# Altium footprint library BBGA-780.PcbLib: 1 footprints
Each footprint in its own frame and in the unit in brackets; x right, y up, seen from the top. Pads: shape width x height; smd on the part's side, far side on the other; paste and mask are expansions set on the pad; w line width, h text height; cw(c..) or ccw(c..) is an arc to the next point about the centre after c.
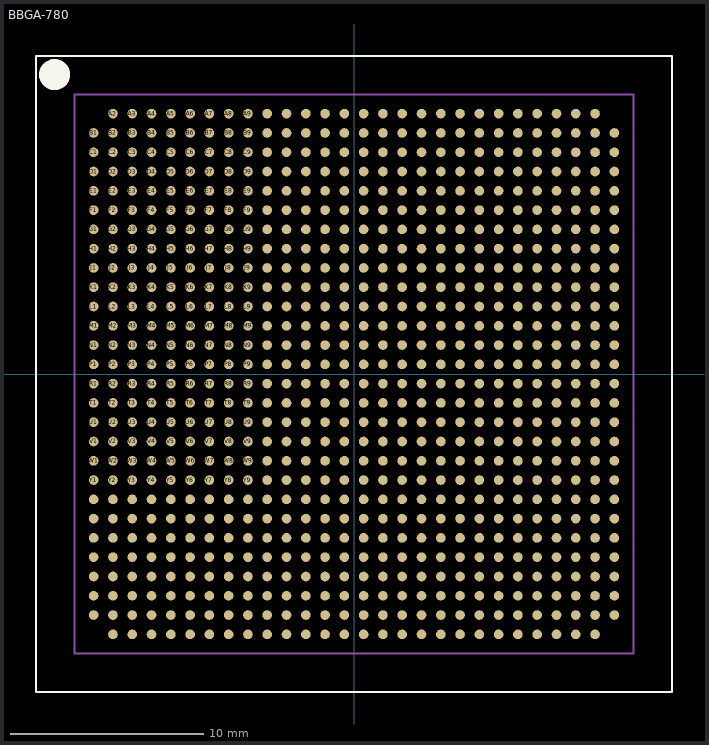
[diagram p0: the footprint, top view; thin cyan lines are the x and y axes]

## BBGA-780 [mil]
height 35.43
pads (780):
  rrect100% 19.69x19.69 smd: A2(-492.13,531.5) A3(-452.76,531.5) A4(-413.39,531.5) A5(-374.02,531.5) A6(-334.65,531.5) A7(-295.28,531.5) A8(-255.91,531.5) A9(-216.54,531.5) A10(-177.17,531.5) A11(-137.8,531.5) A12(-98.43,531.5) A13(-59.06,531.5) A14(-19.69,531.5) A15(19.69,531.5) A16(59.06,531.5) A17(98.43,531.5) A18(137.8,531.5) A19(177.17,531.5) A20(216.54,531.5) A21(255.91,531.5) A22(295.28,531.5) A23(334.65,531.5) A24(374.02,531.5) A25(413.39,531.5) A26(452.76,531.5) A27(492.13,531.5) AA1(-531.5,-255.91) AA2(-492.13,-255.91) AA3(-452.76,-255.91) AA4(-413.39,-255.91) AA5(-374.02,-255.91) AA6(-334.65,-255.91) AA7(-295.28,-255.91) AA8(-255.91,-255.91) AA9(-216.54,-255.91) AA10(-177.17,-255.91) AA11(-137.8,-255.91) AA12(-98.43,-255.91) AA13(-59.06,-255.91) AA14(-19.69,-255.91) AA15(19.69,-255.91) AA16(59.06,-255.91) AA17(98.43,-255.91) AA18(137.8,-255.91) AA19(177.17,-255.91) AA20(216.54,-255.91) AA21(255.91,-255.91) AA22(295.28,-255.91) AA23(334.65,-255.91) AA24(374.02,-255.91) AA25(413.39,-255.91) AA26(452.76,-255.91) AA27(492.13,-255.91) AA28(531.5,-255.91) AB1(-531.5,-295.28) AB2(-492.13,-295.28) AB3(-452.76,-295.28) AB4(-413.39,-295.28) AB5(-374.02,-295.28) AB6(-334.65,-295.28) AB7(-295.28,-295.28) AB8(-255.91,-295.28) AB9(-216.54,-295.28) AB10(-177.17,-295.28) AB11(-137.8,-295.28) AB12(-98.43,-295.28) AB13(-59.06,-295.28) AB14(-19.69,-295.28) AB15(19.69,-295.28) AB16(59.06,-295.28) AB17(98.43,-295.28) AB18(137.8,-295.28) AB19(177.17,-295.28) AB20(216.54,-295.28) AB21(255.91,-295.28) AB22(295.28,-295.28) AB23(334.65,-295.28) AB24(374.02,-295.28) AB25(413.39,-295.28) AB26(452.76,-295.28) AB27(492.13,-295.28) AB28(531.5,-295.28) AC1(-531.5,-334.65) AC2(-492.13,-334.65) AC3(-452.76,-334.65) AC4(-413.39,-334.65) AC5(-374.02,-334.65) AC6(-334.65,-334.65) AC7(-295.28,-334.65) AC8(-255.91,-334.65) AC9(-216.54,-334.65) AC10(-177.17,-334.65) AC11(-137.8,-334.65) AC12(-98.43,-334.65) AC13(-59.06,-334.65) AC14(-19.69,-334.65) AC15(19.69,-334.65) AC16(59.06,-334.65) AC17(98.43,-334.65) AC18(137.8,-334.65) AC19(177.17,-334.65) AC20(216.54,-334.65) AC21(255.91,-334.65) AC22(295.28,-334.65) AC23(334.65,-334.65) AC24(374.02,-334.65) AC25(413.39,-334.65) AC26(452.76,-334.65) AC27(492.13,-334.65) AC28(531.5,-334.65) AD1(-531.5,-374.02) AD2(-492.13,-374.02) AD3(-452.76,-374.02) AD4(-413.39,-374.02) AD5(-374.02,-374.02) AD6(-334.65,-374.02) AD7(-295.28,-374.02) AD8(-255.91,-374.02) AD9(-216.54,-374.02) AD10(-177.17,-374.02) AD11(-137.8,-374.02) AD12(-98.43,-374.02) AD13(-59.06,-374.02) AD14(-19.69,-374.02) AD15(19.69,-374.02) AD16(59.06,-374.02) AD17(98.43,-374.02) AD18(137.8,-374.02) AD19(177.17,-374.02) AD20(216.54,-374.02) AD21(255.91,-374.02) AD22(295.28,-374.02) AD23(334.65,-374.02) AD24(374.02,-374.02) AD25(413.39,-374.02) AD26(452.76,-374.02) AD27(492.13,-374.02) AD28(531.5,-374.02) AE1(-531.5,-413.39) AE2(-492.13,-413.39) AE3(-452.76,-413.39) AE4(-413.39,-413.39) AE5(-374.02,-413.39) AE6(-334.65,-413.39) AE7(-295.28,-413.39) AE8(-255.91,-413.39) AE9(-216.54,-413.39) AE10(-177.17,-413.39) AE11(-137.8,-413.39) AE12(-98.43,-413.39) AE13(-59.06,-413.39) AE14(-19.69,-413.39) AE15(19.69,-413.39) AE16(59.06,-413.39) AE17(98.43,-413.39) AE18(137.8,-413.39) AE19(177.17,-413.39) AE20(216.54,-413.39) AE21(255.91,-413.39) AE22(295.28,-413.39) AE23(334.65,-413.39) AE24(374.02,-413.39) AE25(413.39,-413.39) AE26(452.76,-413.39) AE27(492.13,-413.39) AE28(531.5,-413.39) AF1(-531.5,-452.76) AF2(-492.13,-452.76) AF3(-452.76,-452.76) AF4(-413.39,-452.76) AF5(-374.02,-452.76) AF6(-334.65,-452.76) AF7(-295.28,-452.76) AF8(-255.91,-452.76) AF9(-216.54,-452.76) AF10(-177.17,-452.76) AF11(-137.8,-452.76) AF12(-98.43,-452.76) AF13(-59.06,-452.76) AF14(-19.69,-452.76) AF15(19.69,-452.76) AF16(59.06,-452.76) AF17(98.43,-452.76) AF18(137.8,-452.76) AF19(177.17,-452.76) AF20(216.54,-452.76) AF21(255.91,-452.76) AF22(295.28,-452.76) AF23(334.65,-452.76) AF24(374.02,-452.76) AF25(413.39,-452.76) AF26(452.76,-452.76) AF27(492.13,-452.76) AF28(531.5,-452.76) AG1(-531.5,-492.13) AG2(-492.13,-492.13) AG3(-452.76,-492.13) AG4(-413.39,-492.13) AG5(-374.02,-492.13) AG6(-334.65,-492.13) AG7(-295.28,-492.13) AG8(-255.91,-492.13) AG9(-216.54,-492.13) AG10(-177.17,-492.13) AG11(-137.8,-492.13) AG12(-98.43,-492.13) AG13(-59.06,-492.13) AG14(-19.69,-492.13) AG15(19.69,-492.13) AG16(59.06,-492.13) AG17(98.43,-492.13) AG18(137.8,-492.13) AG19(177.17,-492.13) AG20(216.54,-492.13) AG21(255.91,-492.13) AG22(295.28,-492.13) AG23(334.65,-492.13) AG24(374.02,-492.13) AG25(413.39,-492.13) AG26(452.76,-492.13) AG27(492.13,-492.13) AG28(531.5,-492.13) AH2(-492.13,-531.5) AH3(-452.76,-531.5) AH4(-413.39,-531.5) AH5(-374.02,-531.5) AH6(-334.65,-531.5) AH7(-295.28,-531.5) AH8(-255.91,-531.5) AH9(-216.54,-531.5) AH10(-177.17,-531.5) AH11(-137.8,-531.5) AH12(-98.43,-531.5) AH13(-59.06,-531.5) AH14(-19.69,-531.5) AH15(19.69,-531.5) AH16(59.06,-531.5) AH17(98.43,-531.5) AH18(137.8,-531.5) AH19(177.17,-531.5) AH20(216.54,-531.5) AH21(255.91,-531.5) AH22(295.28,-531.5) AH23(334.65,-531.5) AH24(374.02,-531.5) AH25(413.39,-531.5) AH26(452.76,-531.5) AH27(492.13,-531.5) B1(-531.5,492.13) B2(-492.13,492.13) B3(-452.76,492.13) B4(-413.39,492.13) B5(-374.02,492.13) B6(-334.65,492.13) B7(-295.28,492.13) B8(-255.91,492.13) B9(-216.54,492.13) B10(-177.17,492.13) B11(-137.8,492.13) B12(-98.43,492.13) B13(-59.06,492.13) B14(-19.69,492.13) B15(19.69,492.13) B16(59.06,492.13) B17(98.43,492.13) B18(137.8,492.13) B19(177.17,492.13) B20(216.54,492.13) B21(255.91,492.13) B22(295.28,492.13) B23(334.65,492.13) B24(374.02,492.13) B25(413.39,492.13) B26(452.76,492.13) B27(492.13,492.13) B28(531.5,492.13) C1(-531.5,452.76) C2(-492.13,452.76) C3(-452.76,452.76) C4(-413.39,452.76) C5(-374.02,452.76) C6(-334.65,452.76) C7(-295.28,452.76) C8(-255.91,452.76) C9(-216.54,452.76) C10(-177.17,452.76) C11(-137.8,452.76) C12(-98.43,452.76) C13(-59.06,452.76) C14(-19.69,452.76) C15(19.69,452.76) C16(59.06,452.76) C17(98.43,452.76) C18(137.8,452.76) C19(177.17,452.76) C20(216.54,452.76) C21(255.91,452.76) C22(295.28,452.76) C23(334.65,452.76) C24(374.02,452.76) C25(413.39,452.76) C26(452.76,452.76) C27(492.13,452.76) C28(531.5,452.76) D1(-531.5,413.39) D2(-492.13,413.39) D3(-452.76,413.39) D4(-413.39,413.39) D5(-374.02,413.39) D6(-334.65,413.39) D7(-295.28,413.39) D8(-255.91,413.39) D9(-216.54,413.39) D10(-177.17,413.39) D11(-137.8,413.39) D12(-98.43,413.39) D13(-59.06,413.39) D14(-19.69,413.39) D15(19.69,413.39) D16(59.06,413.39) D17(98.43,413.39) D18(137.8,413.39) D19(177.17,413.39) D20(216.54,413.39) D21(255.91,413.39) D22(295.28,413.39) D23(334.65,413.39) D24(374.02,413.39) D25(413.39,413.39) D26(452.76,413.39) D27(492.13,413.39) D28(531.5,413.39) E1(-531.5,374.02) E2(-492.13,374.02) E3(-452.76,374.02) E4(-413.39,374.02) E5(-374.02,374.02) E6(-334.65,374.02) E7(-295.28,374.02) E8(-255.91,374.02) E9(-216.54,374.02) E10(-177.17,374.02) E11(-137.8,374.02) E12(-98.43,374.02) E13(-59.06,374.02) E14(-19.69,374.02) E15(19.69,374.02) E16(59.06,374.02) E17(98.43,374.02) E18(137.8,374.02) E19(177.17,374.02) E20(216.54,374.02) E21(255.91,374.02) E22(295.28,374.02) E23(334.65,374.02) E24(374.02,374.02) E25(413.39,374.02) E26(452.76,374.02) E27(492.13,374.02) E28(531.5,374.02) F1(-531.5,334.65) F2(-492.13,334.65) F3(-452.76,334.65) F4(-413.39,334.65) F5(-374.02,334.65) F6(-334.65,334.65) F7(-295.28,334.65) F8(-255.91,334.65) F9(-216.54,334.65) F10(-177.17,334.65) F11(-137.8,334.65) F12(-98.43,334.65) F13(-59.06,334.65) F14(-19.69,334.65) F15(19.69,334.65) F16(59.06,334.65) F17(98.43,334.65) F18(137.8,334.65) F19(177.17,334.65) F20(216.54,334.65) F21(255.91,334.65) F22(295.28,334.65) F23(334.65,334.65) F24(374.02,334.65) F25(413.39,334.65) F26(452.76,334.65) F27(492.13,334.65) F28(531.5,334.65) G1(-531.5,295.28) G2(-492.13,295.28) G3(-452.76,295.28) G4(-413.39,295.28) G5(-374.02,295.28) G6(-334.65,295.28) G7(-295.28,295.28) G8(-255.91,295.28) G9(-216.54,295.28) G10(-177.17,295.28) G11(-137.8,295.28) G12(-98.43,295.28) G13(-59.06,295.28) G14(-19.69,295.28) G15(19.69,295.28) G16(59.06,295.28) G17(98.43,295.28) G18(137.8,295.28) G19(177.17,295.28) G20(216.54,295.28) G21(255.91,295.28) G22(295.28,295.28) G23(334.65,295.28) G24(374.02,295.28) G25(413.39,295.28) G26(452.76,295.28) G27(492.13,295.28) G28(531.5,295.28) H1(-531.5,255.91) H2(-492.13,255.91) H3(-452.76,255.91) H4(-413.39,255.91) H5(-374.02,255.91) H6(-334.65,255.91) H7(-295.28,255.91) H8(-255.91,255.91) H9(-216.54,255.91) H10(-177.17,255.91) H11(-137.8,255.91) H12(-98.43,255.91) H13(-59.06,255.91) H14(-19.69,255.91) H15(19.69,255.91) H16(59.06,255.91) H17(98.43,255.91) H18(137.8,255.91) H19(177.17,255.91) H20(216.54,255.91) H21(255.91,255.91) H22(295.28,255.91) H23(334.65,255.91) H24(374.02,255.91) H25(413.39,255.91) H26(452.76,255.91) H27(492.13,255.91) H28(531.5,255.91) J1(-531.5,216.54) J2(-492.13,216.54) J3(-452.76,216.54) J4(-413.39,216.54) J5(-374.02,216.54) J6(-334.65,216.54) J7(-295.28,216.54) J8(-255.91,216.54) J9(-216.54,216.54) J10(-177.17,216.54) J11(-137.8,216.54) J12(-98.43,216.54) J13(-59.06,216.54) J14(-19.69,216.54) J15(19.69,216.54) J16(59.06,216.54) J17(98.43,216.54) J18(137.8,216.54) J19(177.17,216.54) J20(216.54,216.54) J21(255.91,216.54) J22(295.28,216.54) J23(334.65,216.54) J24(374.02,216.54) J25(413.39,216.54) J26(452.76,216.54) J27(492.13,216.54) J28(531.5,216.54) K1(-531.5,177.17) K2(-492.13,177.17) K3(-452.76,177.17) K4(-413.39,177.17) K5(-374.02,177.17) K6(-334.65,177.17) K7(-295.28,177.17) K8(-255.91,177.17) K9(-216.54,177.17) K10(-177.17,177.17) K11(-137.8,177.17) K12(-98.43,177.17) K13(-59.06,177.17) K14(-19.69,177.17) K15(19.69,177.17) K16(59.06,177.17) K17(98.43,177.17) K18(137.8,177.17) K19(177.17,177.17) K20(216.54,177.17) K21(255.91,177.17) K22(295.28,177.17) K23(334.65,177.17) K24(374.02,177.17) K25(413.39,177.17) K26(452.76,177.17) K27(492.13,177.17) K28(531.5,177.17) L1(-531.5,137.8) L2(-492.13,137.8) L3(-452.76,137.8) L4(-413.39,137.8) L5(-374.02,137.8) L6(-334.65,137.8) L7(-295.28,137.8) L8(-255.91,137.8) L9(-216.54,137.8) L10(-177.17,137.8) L11(-137.8,137.8) L12(-98.43,137.8) L13(-59.06,137.8) L14(-19.69,137.8) L15(19.69,137.8) L16(59.06,137.8) L17(98.43,137.8) L18(137.8,137.8) L19(177.17,137.8) L20(216.54,137.8) L21(255.91,137.8) L22(295.28,137.8) L23(334.65,137.8) L24(374.02,137.8) L25(413.39,137.8) L26(452.76,137.8) L27(492.13,137.8) L28(531.5,137.8) M1(-531.5,98.43) M2(-492.13,98.43) M3(-452.76,98.43) M4(-413.39,98.43) M5(-374.02,98.43) M6(-334.65,98.43) M7(-295.28,98.43) M8(-255.91,98.43) M9(-216.54,98.43) M10(-177.17,98.43) M11(-137.8,98.43) M12(-98.43,98.43) M13(-59.06,98.43) M14(-19.69,98.43) M15(19.69,98.43) M16(59.06,98.43) M17(98.43,98.43) M18(137.8,98.43) M19(177.17,98.43) M20(216.54,98.43) M21(255.91,98.43) M22(295.28,98.43) M23(334.65,98.43) M24(374.02,98.43) M25(413.39,98.43) M26(452.76,98.43) M27(492.13,98.43) M28(531.5,98.43) N1(-531.5,59.06) N2(-492.13,59.06) N3(-452.76,59.06) N4(-413.39,59.06) N5(-374.02,59.06) N6(-334.65,59.06) N7(-295.28,59.06) N8(-255.91,59.06) N9(-216.54,59.06) N10(-177.17,59.06) N11(-137.8,59.06) N12(-98.43,59.06) N13(-59.06,59.06) N14(-19.69,59.06) N15(19.69,59.06) N16(59.06,59.06) N17(98.43,59.06) N18(137.8,59.06) N19(177.17,59.06) N20(216.54,59.06) N21(255.91,59.06) N22(295.28,59.06) N23(334.65,59.06) N24(374.02,59.06) N25(413.39,59.06) N26(452.76,59.06) N27(492.13,59.06) N28(531.5,59.06) P1(-531.5,19.69) P2(-492.13,19.69) P3(-452.76,19.69) P4(-413.39,19.69) P5(-374.02,19.69) P6(-334.65,19.69) P7(-295.28,19.69) P8(-255.91,19.69) P9(-216.54,19.69) P10(-177.17,19.69) P11(-137.8,19.69) P12(-98.43,19.69) P13(-59.06,19.69) P14(-19.69,19.69) P15(19.69,19.69) P16(59.06,19.69) P17(98.43,19.69) P18(137.8,19.69) P19(177.17,19.69) P20(216.54,19.69) P21(255.91,19.69) P22(295.28,19.69) P23(334.65,19.69) P24(374.02,19.69) P25(413.39,19.69) P26(452.76,19.69) P27(492.13,19.69) P28(531.5,19.69) R1(-531.5,-19.69) R2(-492.13,-19.69) R3(-452.76,-19.69) R4(-413.39,-19.69) R5(-374.02,-19.69) R6(-334.65,-19.69) R7(-295.28,-19.69) R8(-255.91,-19.69) R9(-216.54,-19.69) R10(-177.17,-19.69) R11(-137.8,-19.69) R12(-98.43,-19.69) R13(-59.06,-19.69) R14(-19.69,-19.69) R15(19.69,-19.69) R16(59.06,-19.69) R17(98.43,-19.69) R18(137.8,-19.69) R19(177.17,-19.69) R20(216.54,-19.69) R21(255.91,-19.69) R22(295.28,-19.69) R23(334.65,-19.69) R24(374.02,-19.69) R25(413.39,-19.69) R26(452.76,-19.69) R27(492.13,-19.69) R28(531.5,-19.69) T1(-531.5,-59.06) T2(-492.13,-59.06) T3(-452.76,-59.06) T4(-413.39,-59.06) T5(-374.02,-59.06) T6(-334.65,-59.06) T7(-295.28,-59.06) T8(-255.91,-59.06) T9(-216.54,-59.06) T10(-177.17,-59.06) T11(-137.8,-59.06) T12(-98.43,-59.06) T13(-59.06,-59.06) T14(-19.69,-59.06) T15(19.69,-59.06) T16(59.06,-59.06) T17(98.43,-59.06) T18(137.8,-59.06) T19(177.17,-59.06) T20(216.54,-59.06) T21(255.91,-59.06) T22(295.28,-59.06) T23(334.65,-59.06) T24(374.02,-59.06) T25(413.39,-59.06) T26(452.76,-59.06) T27(492.13,-59.06) T28(531.5,-59.06) U1(-531.5,-98.43) U2(-492.13,-98.43) U3(-452.76,-98.43) U4(-413.39,-98.43) U5(-374.02,-98.43) U6(-334.65,-98.43) U7(-295.28,-98.43) U8(-255.91,-98.43) U9(-216.54,-98.43) U10(-177.17,-98.43) U11(-137.8,-98.43) U12(-98.43,-98.43) U13(-59.06,-98.43) U14(-19.69,-98.43) U15(19.69,-98.43) U16(59.06,-98.43) U17(98.43,-98.43) U18(137.8,-98.43) U19(177.17,-98.43) U20(216.54,-98.43) U21(255.91,-98.43) U22(295.28,-98.43) U23(334.65,-98.43) U24(374.02,-98.43) U25(413.39,-98.43) U26(452.76,-98.43) U27(492.13,-98.43) U28(531.5,-98.43) V1(-531.5,-137.8) V2(-492.13,-137.8) V3(-452.76,-137.8) V4(-413.39,-137.8) V5(-374.02,-137.8) V6(-334.65,-137.8) V7(-295.28,-137.8) V8(-255.91,-137.8) V9(-216.54,-137.8) V10(-177.17,-137.8) V11(-137.8,-137.8) V12(-98.43,-137.8) V13(-59.06,-137.8) V14(-19.69,-137.8) V15(19.69,-137.8) V16(59.06,-137.8) V17(98.43,-137.8) V18(137.8,-137.8) V19(177.17,-137.8) V20(216.54,-137.8) V21(255.91,-137.8) V22(295.28,-137.8) V23(334.65,-137.8) V24(374.02,-137.8) V25(413.39,-137.8) V26(452.76,-137.8) V27(492.13,-137.8) V28(531.5,-137.8) W1(-531.5,-177.17) W2(-492.13,-177.17) W3(-452.76,-177.17) W4(-413.39,-177.17) W5(-374.02,-177.17) W6(-334.65,-177.17) W7(-295.28,-177.17) W8(-255.91,-177.17) W9(-216.54,-177.17) W10(-177.17,-177.17) W11(-137.8,-177.17) W12(-98.43,-177.17) W13(-59.06,-177.17) W14(-19.69,-177.17) W15(19.69,-177.17) W16(59.06,-177.17) W17(98.43,-177.17) W18(137.8,-177.17) W19(177.17,-177.17) W20(216.54,-177.17) W21(255.91,-177.17) W22(295.28,-177.17) W23(334.65,-177.17) W24(374.02,-177.17) W25(413.39,-177.17) W26(452.76,-177.17) W27(492.13,-177.17) W28(531.5,-177.17) Y1(-531.5,-216.54) Y2(-492.13,-216.54) Y3(-452.76,-216.54) Y4(-413.39,-216.54) Y5(-374.02,-216.54) Y6(-334.65,-216.54) Y7(-295.28,-216.54) Y8(-255.91,-216.54) Y9(-216.54,-216.54) Y10(-177.17,-216.54) Y11(-137.8,-216.54) Y12(-98.43,-216.54) Y13(-59.06,-216.54) Y14(-19.69,-216.54) Y15(19.69,-216.54) Y16(59.06,-216.54) Y17(98.43,-216.54) Y18(137.8,-216.54) Y19(177.17,-216.54) Y20(216.54,-216.54) Y21(255.91,-216.54) Y22(295.28,-216.54) Y23(334.65,-216.54) Y24(374.02,-216.54) Y25(413.39,-216.54) Y26(452.76,-216.54) Y27(492.13,-216.54) Y28(531.5,-216.54)
Top Overlay:
  circle w39.37: c-611.22,611.22 r11.81
  lines w3.94: -649.61,-649.61 -649.61,649.61 649.61,649.61 649.61,-649.61 -649.61,-649.61
Top Assembly:
  circle w39.37: c-611.22,611.22 r11.81
  lines w3.94: -570.87,-570.87 -570.87,570.87 570.87,570.87 570.87,-570.87 -570.87,-570.87
  text "'.Designator'" at -526.57,595.47 h27.56
3D body "10CX220YF780E5G.stp": height 131.89, standoff 0, extent -570.87,-570.87 570.87,570.87